# Altium footprint library IHLP-3232DZ-01.PcbLib: 1 footprints
Each footprint in its own frame and in the unit in brackets; x right, y up, seen from the top. Pads: shape width x height; smd on the part's side, far side on the other; paste and mask are expansions set on the pad; w line width, h text height; cw(c..) or ccw(c..) is an arc to the next point about the centre after c.
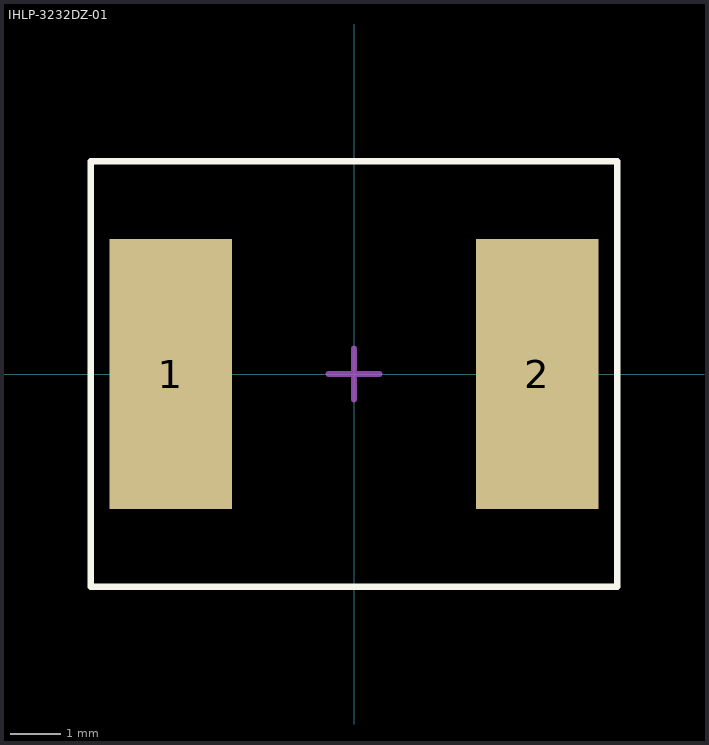
[diagram p0: the footprint, top view; thin cyan lines are the x and y axes]

## IHLP-3232DZ-01 [mil]
height 393.7
pads (2):
  rect 95x210 smd: 1(-142.5,0) 2(142.5,0)
Top Overlay:
  lines w5: -204.72,-165.35 -204.72,165.35 204.72,165.35 204.72,-165.35 -204.72,-165.35
Mechanical 15:
  lines w5: -19.68,0 19.68,0 ; 0,-19.69 0,19.68
3D body: height 157.48, standoff 0, extent -157.48,-157.48 157.48,157.48